# Altium footprint library 22275951.PcbLib: 1 footprints
Each footprint in its own frame and in the unit in brackets; x right, y up, seen from the top. Pads: shape width x height; smd on the part's side, far side on the other; paste and mask are expansions set on the pad; w line width, h text height; cw(c..) or ccw(c..) is an arc to the next point about the centre after c.
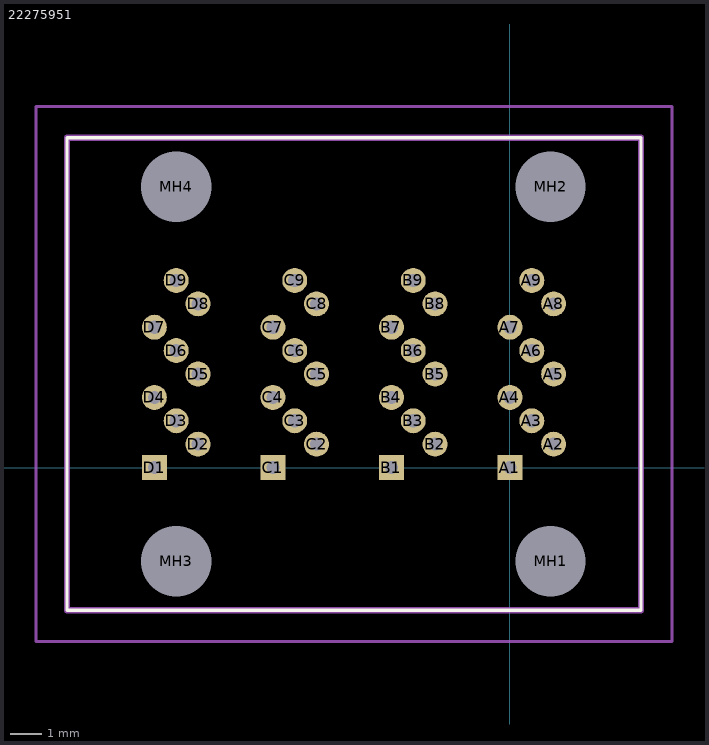
[diagram p0: the footprint, top view; thin cyan lines are the x and y axes]

## 22275951 [mm]
pads (40):
  rect 0.8x0.8 hole 0.42: A1(0,0) B1(-3.8,0) C1(-7.6,0) D1(-11.4,0)
  round 0.8 hole 0.42: A2(1.4,0.75) A3(0.7,1.5) A4(0,2.25) A5(1.4,3) A6(0.7,3.75) A7(0,4.5) A8(1.4,5.25) A9(0.7,6) B2(-2.4,0.75) B3(-3.1,1.5) B4(-3.8,2.25) B5(-2.4,3) B6(-3.1,3.75) B7(-3.8,4.5) B8(-2.4,5.25) B9(-3.1,6) C2(-6.2,0.75) C3(-6.9,1.5) C4(-7.6,2.25) C5(-6.2,3) C6(-6.9,3.75) C7(-7.6,4.5) C8(-6.2,5.25) C9(-6.9,6) D2(-10,0.75) D3(-10.7,1.5) D4(-11.4,2.25) D5(-10,3) D6(-10.7,3.75) D7(-11.4,4.5) D8(-10,5.25) D9(-10.7,6)
  round 1.125 hole 2.25 unplated: MH1(1.3,-3) MH2(1.3,9) MH3(-10.7,-3) MH4(-10.7,9)
Top Overlay:
  lines w0.1: -14.2,-4.575 4.2,-4.575 4.2,10.575 -14.2,10.575 -14.2,-4.575
Mechanical 15:
  lines w0.2: -14.2,-4.575 4.2,-4.575 4.2,10.575 -14.2,10.575 -14.2,-4.575
Mechanical 20:
  lines w0.1: -15.2,-5.575 5.2,-5.575 5.2,11.575 -15.2,11.575 -15.2,-5.575